# Altium footprint library 60W-PD.PcbLib: 70 footprints (part 2 of 5)
Each footprint in its own frame and in the unit in brackets; x right, y up, seen from the top. Pads: shape width x height; smd on the part's side, far side on the other; paste and mask are expansions set on the pad; w line width, h text height; cw(c..) or ccw(c..) is an arc to the next point about the centre after c.
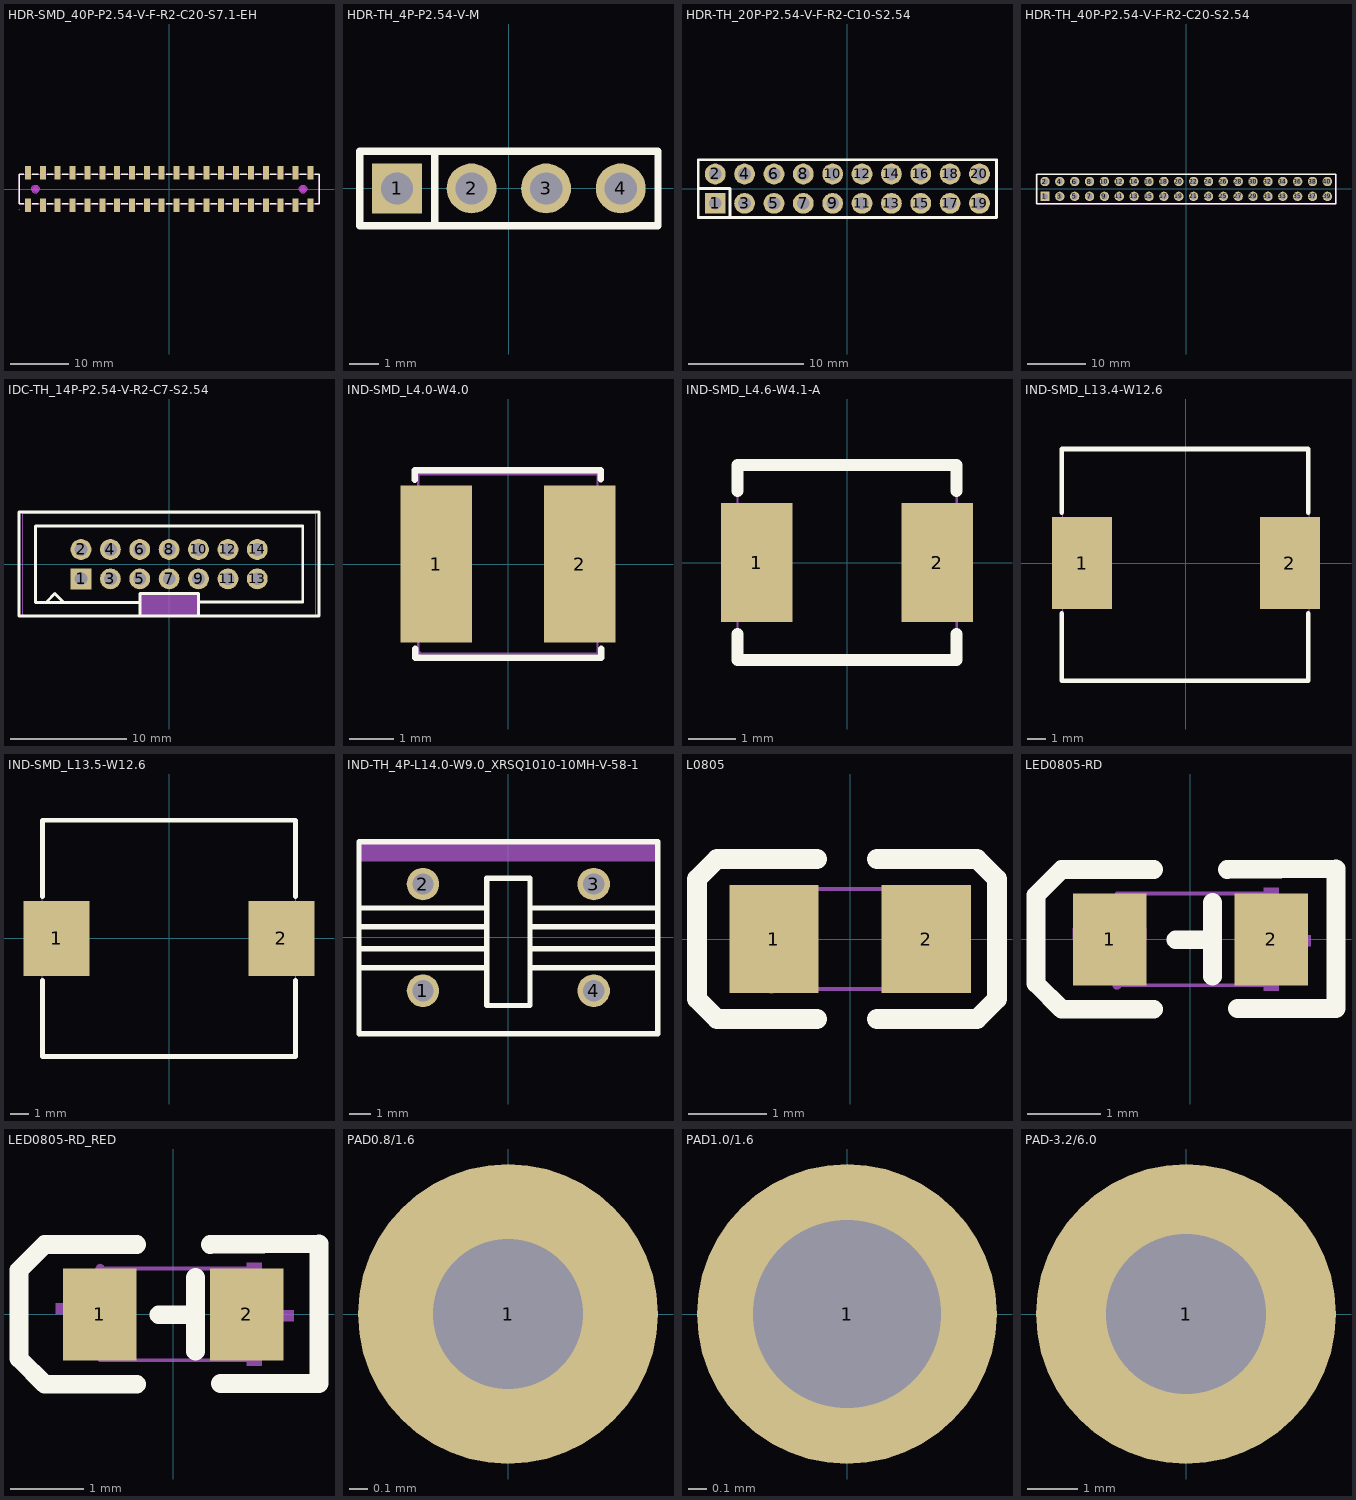
[diagram p1: the footprints below, top view; thin cyan lines are the x and y axes]

## HDR-SMD_40P-P2.54-V-F-R2-C20-S7.1-EH [mil]
pads (40):
  rect 40.2x90.6 smd: 1(-950,-108.2) 2(-950,108.3) 3(-850,-108.2) 4(-850,108.3) 5(-750,-108.2) 6(-750,108.3) 7(-650,-108.2) 8(-650,108.3) 9(-550,-108.2) 10(-550,108.3) 11(-450,-108.2) 12(-450,108.3) 13(-350,-108.2) 14(-350,108.3) 15(-250,-108.2) 16(-250,108.3) 17(-150,-108.2) 18(-150,108.3) 19(-50,-108.2) 20(-50,108.3) 21(50,-108.2) 22(50,108.3) 23(150,-108.2) 24(150,108.3) 25(250,-108.2) 26(250,108.3) 27(350,-108.2) 28(350,108.3) 29(450,-108.2) 30(450,108.3) 31(550,-108.2) 32(550,108.3) 33(650,-108.2) 34(650,108.3) 35(750,-108.2) 36(750,108.3) 37(850,-108.2) 38(850,108.3) 39(950,-108.2) 40(950,108.3)
Top Overlay:
  lines w10: -979.1,-100 -1007.8,-100 -1007.8,100 -979.1,100 ; -920.8,-100 -879.1,-100 ; -920.8,100 -879.1,100 ; -820.8,-100 -779.1,-100 ; -820.8,100 -779.1,100 ; -720.8,-100 -679.1,-100 ; -720.8,100 -679.1,100 ; -620.8,-100 -579.1,-100 ; -620.8,100 -579.1,100 ; -520.8,-100 -479.1,-100 ; -520.8,100 -479.1,100 ; -420.8,-100 -379.1,-100 ; -420.8,100 -379.1,100 ; -320.8,-100 -279.1,-100 ; -320.8,100 -279.1,100 ; -220.8,-100 -179.1,-100 ; -220.8,100 -179.1,100 ; -120.8,-100 -79.1,-100 ; -120.8,100 -79.1,100 ; -20.8,-100 20.9,-100 ; -20.8,100 20.9,100 ; 79.2,-100 120.9,-100 ; 79.2,100 120.9,100 ; 179.2,-100 220.9,-100 ; 179.2,100 220.9,100 ; 279.2,-100 320.9,-100 ; 279.2,100 320.9,100 ; 379.2,-100 420.9,-100 ; 379.2,100 420.9,100 ; 479.2,-100 520.9,-100 ; 479.2,100 520.9,100 ; 579.2,-100 620.9,-100 ; 579.2,100 620.9,100 ; 679.2,-100 720.9,-100 ; 679.2,100 720.9,100 ; 779.2,-100 820.9,-100 ; 779.2,100 820.9,100 ; 879.2,-100 920.9,-100 ; 879.2,100 920.9,100 ; 979.2,-100 1007.9,-100 1007.9,100 979.2,100
Keep-Out Layer:
  board cut-out: 925.6,0 925.2,-4.4 924.1,-8.7 922.2,-12.8 919.6,-16.4 916.5,-19.6 912.8,-22.1 908.8,-24 904.5,-25.2 900,-25.6 895.6,-25.2 891.3,-24 887.2,-22.1 883.6,-19.6 880.4,-16.4 877.9,-12.8 876,-8.7 874.8,-4.4 874.4,0 874.8,4.5 876,8.8 877.9,12.8 880.4,16.5 883.6,19.6 887.2,22.2 891.3,24.1 895.6,25.2 900,25.6 904.5,25.2 908.8,24.1 912.8,22.2 916.5,19.6 919.6,16.5 922.2,12.8 924.1,8.8 925.2,4.5
  board cut-out: -874.4,0 -874.8,-4.4 -875.9,-8.7 -877.8,-12.8 -880.4,-16.4 -883.5,-19.6 -887.2,-22.1 -891.2,-24 -895.5,-25.2 -900,-25.6 -904.4,-25.2 -908.7,-24 -912.8,-22.1 -916.4,-19.6 -919.6,-16.4 -922.1,-12.8 -924,-8.7 -925.2,-4.4 -925.6,0 -925.2,4.5 -924,8.8 -922.1,12.8 -919.6,16.5 -916.4,19.6 -912.8,22.2 -908.7,24.1 -904.4,25.2 -900,25.6 -895.5,25.2 -891.2,24.1 -887.2,22.2 -883.5,19.6 -880.4,16.5 -877.8,12.8 -875.9,8.8 -874.8,4.5
Keep-Out Layer:
  drawing of 76 lines, arcs and shapes, not listed
Mechanical 1:
  lines w0.1: -925.6,0 -925.2,4.5 -924,8.8 -922.1,12.8 -919.6,16.5 -916.4,19.6 -912.8,22.2 -908.7,24.1 -904.4,25.2 -900,25.6 -895.5,25.2 -891.2,24.1 -887.2,22.2 -883.5,19.6 -880.4,16.5 -877.8,12.8 -875.9,8.8 -874.8,4.5 -874.4,0 -874.8,-4.4 -875.9,-8.7 -877.8,-12.8 -880.4,-16.4 -883.5,-19.6 -887.2,-22.1 -891.2,-24 -895.5,-25.2 -900,-25.6 -904.4,-25.2 -908.7,-24 -912.8,-22.1 -916.4,-19.6 -919.6,-16.4 -922.1,-12.8 -924,-8.7 -925.2,-4.4 -925.6,0 ; 874.4,0 874.8,4.5 876,8.8 877.9,12.8 880.4,16.5 883.6,19.6 887.2,22.2 891.3,24.1 895.6,25.2 900,25.6 904.5,25.2 908.8,24.1 912.8,22.2 916.5,19.6 919.6,16.5 922.2,12.8 924.1,8.8 925.2,4.5 925.6,0 925.2,-4.4 924.1,-8.7 922.2,-12.8 919.6,-16.4 916.5,-19.6 912.8,-22.1 908.8,-24 904.5,-25.2 900,-25.6 895.6,-25.2 891.3,-24 887.2,-22.1 883.6,-19.6 880.4,-16.4 877.9,-12.8 876,-8.7 874.8,-4.4 874.4,0
Mechanical 2:
  lines w19.7: -909.7,-1.3 -909.7,1.4 -909,4 -907.6,6.2 -905.6,8.1 -903.3,9.3 -900.6,9.9 -898,9.7 -895.4,8.8 -893.2,7.2 -891.6,5.1 -890.5,2.7 -890.1,0 -890.5,-2.6 -891.6,-5.1 -893.2,-7.2 -895.4,-8.7 -898,-9.6 -900.6,-9.8 -903.3,-9.2 -905.6,-8 -907.6,-6.2 -909,-3.9 -909.7,-1.3 ; 890.3,-1.3 890.3,1.4 891,4 892.4,6.2 894.4,8.1 896.7,9.3 899.4,9.9 902,9.7 904.6,8.8 906.8,7.2 908.4,5.1 909.5,2.7 909.9,0 909.5,-2.6 908.4,-5.1 906.8,-7.2 904.6,-8.7 902,-9.6 899.4,-9.8 896.7,-9.2 894.4,-8 892.4,-6.2 891,-3.9 890.3,-1.3
Mechanical 6:
  lines w2: -1007.8,-100 -1007.8,100 1007.9,100 1007.9,-100 -1007.8,-100
Mechanical 8:
  region: -1005.5,-139.7 -1005.9,-141 -1006.9,-141.9 -1008.2,-142.1 -1009.4,-141.5 -1010.1,-140.4 -1010.1,-139.1 -1009.4,-137.9 -1008.2,-137.4 -1006.9,-137.6 -1005.9,-138.4
Mechanical 9:
  drawing of 40 lines, arcs and shapes, not listed

## HDR-TH_4P-P2.54-V-M [mil]
pads (4):
  rect 66.9x66.9 hole 43.3: 1(-150,0)
  round 66.9 hole 43.3: 2(-50,0) 3(50,0) 4(150,0)
Top Overlay:
  lines w10: -99.1,-50 -99.1,50 ; -99.1,50 200,50 200,-50 -200,-50 -200,50 -99.1,50
Mechanical 6:
  lines w2: -200,-49.2 -200,49.2 200,49.2 200,-49.2 -200,-49.2
Mechanical 8:
  region: -197.7,-49.2 -198.1,-50.5 -199.1,-51.4 -200.4,-51.6 -201.6,-51 -202.3,-49.9 -202.3,-48.6 -201.6,-47.5 -200.4,-46.9 -199.1,-47.1 -198.1,-48
Mechanical 9:
  region: -162.6,12.6 -137.4,12.6 -137.4,-12.6 -162.6,-12.6
  region: -62.6,12.6 -37.4,12.6 -37.4,-12.6 -62.6,-12.6
  region: 37.4,12.6 62.6,12.6 62.6,-12.6 37.4,-12.6
  region: 137.4,12.6 162.6,12.6 162.6,-12.6 137.4,-12.6

## HDR-TH_20P-P2.54-V-F-R2-C10-S2.54 [mil]
pads (20):
  rect 70.9x70.9 hole 43.3: 1(-450,-50)
  round 70.9 hole 43.3: 2(-450,50) 3(-350,-50) 4(-350,50) 5(-250,-50) 6(-250,50) 7(-150,-50) 8(-150,50) 9(-50,-50) 10(-50,50) 11(50,-50) 12(50,50) 13(150,-50) 14(150,50) 15(250,-50) 16(250,50) 17(350,-50) 18(350,50) 19(450,-50) 20(450,50)
Top Overlay:
  lines w10: -505,0 -400,0 -400,-95 ; -507.9,-98.4 -507.9,98.4 507.9,98.4 507.9,-98.4 -507.9,-98.4
Mechanical 6:
  lines w2: -509.8,-98.4 509.8,-98.4 509.8,98.4 -509.8,98.4 -509.8,-98.4
Mechanical 8:
  region: -507.5,-98.4 -507.9,-99.7 -508.9,-100.6 -510.2,-100.8 -511.4,-100.2 -512.1,-99.1 -512.1,-97.8 -511.4,-96.7 -510.2,-96.1 -508.9,-96.3 -507.9,-97.2
Mechanical 9:
  region: 438.2,54.9 461.8,54.9 461.8,45.1 438.2,45.1
  region: 438.2,-45.1 461.8,-45.1 461.8,-54.9 438.2,-54.9
  region: 338.2,54.9 361.8,54.9 361.8,45.1 338.2,45.1
  region: 338.2,-45.1 361.8,-45.1 361.8,-54.9 338.2,-54.9
  region: 238.2,54.9 261.8,54.9 261.8,45.1 238.2,45.1
  region: 238.2,-45.1 261.8,-45.1 261.8,-54.9 238.2,-54.9
  region: 138.2,54.9 161.8,54.9 161.8,45.1 138.2,45.1
  region: 138.2,-45.1 161.8,-45.1 161.8,-54.9 138.2,-54.9
  region: 38.2,54.9 61.8,54.9 61.8,45.1 38.2,45.1
  region: 38.2,-45.1 61.8,-45.1 61.8,-54.9 38.2,-54.9
  region: -61.8,54.9 -38.2,54.9 -38.2,45.1 -61.8,45.1
  region: -61.8,-45.1 -38.2,-45.1 -38.2,-54.9 -61.8,-54.9
  region: -161.8,54.9 -138.2,54.9 -138.2,45.1 -161.8,45.1
  region: -161.8,-45.1 -138.2,-45.1 -138.2,-54.9 -161.8,-54.9
  region: -261.8,54.9 -238.2,54.9 -238.2,45.1 -261.8,45.1
  region: -261.8,-45.1 -238.2,-45.1 -238.2,-54.9 -261.8,-54.9
  region: -361.8,54.9 -338.2,54.9 -338.2,45.1 -361.8,45.1
  region: -361.8,-45.1 -338.2,-45.1 -338.2,-54.9 -361.8,-54.9
  region: -461.8,54.9 -438.2,54.9 -438.2,45.1 -461.8,45.1
  region: -461.8,-45.1 -438.2,-45.1 -438.2,-54.9 -461.8,-54.9

## HDR-TH_40P-P2.54-V-F-R2-C20-S2.54 [mil]
pads (40):
  rect 63x63 hole 39.4: 1(-950,-50)
  round 63 hole 39.4: 2(-950,50) 3(-850,-50) 4(-850,50) 5(-750,-50) 6(-750,50) 7(-650,-50) 8(-650,50) 9(-550,-50) 10(-550,50) 11(-450,-50) 12(-450,50) 13(-350,-50) 14(-350,50) 15(-250,-50) 16(-250,50) 17(-150,-50) 18(-150,50) 19(-50,-50) 20(-50,50) 21(50,-50) 22(50,50) 23(150,-50) 24(150,50) 25(250,-50) 26(250,50) 27(350,-50) 28(350,50) 29(450,-50) 30(450,50) 31(550,-50) 32(550,50) 33(650,-50) 34(650,50) 35(750,-50) 36(750,50) 37(850,-50) 38(850,50) 39(950,-50) 40(950,50)
Top Overlay:
  lines w10: -1005,-100 -1005,100 1005,100 1005,-100 -1005,-100
Mechanical 3:
  lines w2: -1007.8,-98.4 -1007.8,98.4 1007.9,98.4 1007.9,-98.4 -1007.8,-98.4
Mechanical 5:
  region: -1005.5,-98.4 -1005.9,-99.7 -1006.9,-100.6 -1008.2,-100.8 -1009.4,-100.2 -1010.1,-99.1 -1010.1,-97.8 -1009.4,-96.7 -1008.2,-96.1 -1006.9,-96.3 -1005.9,-97.2
Mechanical 6:
  drawing of 40 lines, arcs and shapes, not listed

## IDC-TH_14P-P2.54-V-R2-C7-S2.54 [mil]
pads (14):
  rect 70.9x70.9 hole 43.3: 1(-300,-50)
  round 70.9 hole 43.3: 2(-300,50) 3(-200,-50) 4(-200,50) 5(-100,-50) 6(-100,50) 7(0,-50) 8(0,50) 9(100,-50) 10(100,50) 11(200,-50) 12(200,50) 13(300,-50) 14(300,50)
Top Overlay:
  lines w10: -511,-176.3 -511,178 ; -509.9,178 509.9,178 509.9,-176.3 ; -508.9,-177 509.9,-177 ; -455,-130 -100,-130 ; -455,-129 -455,129.7 ; -454.7,130 454.6,130 ; -414,-125 -389,-100 -362,-127 -362,-128 ; -99.1,-177 -99.1,-100 100,-100 100,-177 ; 100,-129 454.6,-129 454.6,129.7
Mechanical 2:
  region: -98.4,-173.2 -98.4,-98.4 102.4,-98.4 102.4,-173.2
Mechanical 6:
  lines w2: -498,-173.2 -498,173.2 498,173.2 498,-173.2 -498,-173.2
Mechanical 8:
  region: -495.7,-173.2 -496,-174.5 -497,-175.4 -498.4,-175.6 -499.6,-175 -500.3,-173.9 -500.3,-172.6 -499.6,-171.4 -498.4,-170.9 -497,-171.1 -496,-172
Mechanical 9:
  region: -312.6,-37.4 -287.4,-37.4 -287.4,-62.6 -312.6,-62.6
  region: -312.6,62.6 -287.4,62.6 -287.4,37.4 -312.6,37.4
  region: -212.6,-37.4 -187.4,-37.4 -187.4,-62.6 -212.6,-62.6
  region: -212.6,62.6 -187.4,62.6 -187.4,37.4 -212.6,37.4
  region: -112.6,-37.4 -87.4,-37.4 -87.4,-62.6 -112.6,-62.6
  region: -112.6,62.6 -87.4,62.6 -87.4,37.4 -112.6,37.4
  region: -12.6,-37.4 12.6,-37.4 12.6,-62.6 -12.6,-62.6
  region: -12.6,62.6 12.6,62.6 12.6,37.4 -12.6,37.4
  region: 87.4,-37.4 112.6,-37.4 112.6,-62.6 87.4,-62.6
  region: 87.4,62.6 112.6,62.6 112.6,37.4 87.4,37.4
  region: 187.4,-37.4 212.6,-37.4 212.6,-62.6 187.4,-62.6
  region: 187.4,62.6 212.6,62.6 212.6,37.4 187.4,37.4
  region: 287.4,-37.4 312.6,-37.4 312.6,-62.6 287.4,-62.6
  region: 287.4,62.6 312.6,62.6 312.6,37.4 287.4,37.4

## IND-SMD_L4.0-W4.0 [mil]
pads (2):
  rect 63x137.8 smd: 1(-63,0) 2(63,0)
Top Overlay:
  lines w5.9: -81.9,74 -82,82.5 81.5,82.5 81.5,74.8 ; -81.5,-74.4 -81.5,-82.5 82,-82.5 81.9,-74.8
Mechanical 6:
  lines w2: -78.8,-78.7 -78.8,78.8 78.7,78.8 78.7,-78.7 -78.8,-78.7
Mechanical 8:
  region: -76.4,-78.7 -76.8,-80 -77.8,-80.9 -79.1,-81 -80.3,-80.5 -81,-79.4 -81,-78 -80.3,-76.9 -79.1,-76.4 -77.8,-76.6 -76.8,-77.4
Mechanical 9:
  region: 41.3,65 78.7,65 78.7,-64.9 41.3,-64.9
  region: -78.8,65 -41.4,65 -41.4,-64.9 -78.8,-64.9

## IND-SMD_L4.6-W4.1-A [mil]
pads (2):
  rect 59.1x98.4 smd: 1(-74.8,0) 2(74.8,0)
Top Overlay:
  lines w10: -90.5,-59.1 -90.5,-80.7 90.6,-80.7 90.6,-59.1 ; -90.5,59 -90.5,80.7 90.6,80.7 ; 90.6,59 90.6,80.6
Mechanical 6:
  lines w2: -90.5,-80.7 -90.5,80.7 90.6,80.7 90.6,-80.7 -90.5,-80.7
Mechanical 8:
  region: -88.2,-80.7 -88.5,-82 -89.5,-82.9 -90.9,-83.1 -92.1,-82.5 -92.8,-81.4 -92.8,-80.1 -92.1,-79 -90.9,-78.4 -89.5,-78.6 -88.5,-79.5
Mechanical 9:
  region: -51.2,29.5 -51.2,-29.6 -90.5,-29.6 -90.5,29.5
  region: 90.6,29.5 90.6,-29.6 51.2,-29.6 51.2,29.5

## IND-SMD_L13.4-W12.6 [mil]
pads (2):
  rect 128x196.8 smd: 1(-222.4,0) 2(222.5,0)
Top Overlay:
  lines w10: -265.7,-107.6 -265.7,-252 261.8,-252 261.8,-107.6 ; -265.7,107.5 -265.7,244.1 261.8,244.1 261.8,107.5
Mechanical 6:
  lines w2: -263.8,-248.1 -263.8,248 263.8,248 263.8,-248.1 -263.8,-248.1
Mechanical 8:
  region: -261.4,-248.1 -261.4,-249.09 -262.81,-250.5 -264.79,-250.5 -266.2,-249.09 -266.2,-248.1 -266.2,-247.11 -264.79,-245.7 -262.81,-245.7 -261.4,-247.11
Mechanical 9:
  region: -173.2,92.5 -173.2,-92.6 -263.8,-92.6 -263.8,92.5
  region: 263.8,92.5 263.8,-92.6 173.2,-92.6 173.2,92.5
3D body "Unnamed-EasyEDA PCB Model~EUAe.step": height 256.34, standoff 0, extent -269.76,-253.03 259.76,243.03

## IND-SMD_L13.5-W12.6 [mil]
pads (2):
  rect 137.8x157.5 smd: 1(-236.2,0) 2(236.2,0)
Top Overlay:
  lines w10: -265.7,-87.8 -265.7,-248 265.8,-248 265.8,-87.8 ; -265.7,87.8 -265.7,248 265.8,248 265.8,87.8
Mechanical 6:
  lines w2: -265.7,-248 -265.7,248 265.8,248 265.8,-248 -265.7,-248
Mechanical 8:
  region: -263.4,-248 -263.7,-249.3 -264.8,-250.2 -266.1,-250.4 -267.3,-249.8 -268,-248.7 -268,-247.4 -267.3,-246.3 -266.1,-245.7 -264.8,-245.9 -263.7,-246.8
Mechanical 9:
  region: 265.8,68.9 265.8,-68.9 187,-68.9 187,68.9
  region: -187,68.9 -187,-68.9 -265.7,-68.9 -265.7,68.9

## IND-TH_4P-L14.0-W9.0_XRSQ1010-10MH-V-58-1 [mil]
pads (4):
  round 60 hole 39.4 paste-99999 mask+2: 1(-157.5,-98.5) 2(-157.5,98.4) 3(157.4,98.4) 4(157.4,-98.5)
Top Overlay:
  lines w10: -268.4,-55.8 -40,-55.8 ; -268.4,-20.8 -40,-20.8 ; -268.4,19.2 -40,19.2 ; -268.4,54.2 -40,54.2 ; 40,-55.8 268.3,-55.8 ; 40,-20.8 268.3,-20.8 ; 40,19.2 268.3,19.2 ; 40,54.2 268.3,54.2 ; -275.6,-178 275.6,-178 275.6,176.3 -275.6,176.3 -275.6,-178 ; -40,-125.8 40,-125.8 40,109.2 -40,109.2 -40,-125.8
Mechanical 2:
  region: -275,140 -275,175 275,175 275,140
Mechanical 6:
  lines w2: -275,-180 -275,174.3 276.1,174.3 276.1,-180 -275,-180
Mechanical 8:
  region: -272.6,-180 -272.6,-180.99 -274.01,-182.4 -275.99,-182.4 -277.4,-180.99 -277.4,-180 -277.4,-179.01 -275.99,-177.6 -274.01,-177.6 -272.6,-179.01
Mechanical 9:
  region: -141.8,-98.5 -141.8,-101.62 -144.19,-107.39 -148.61,-111.81 -154.38,-114.2 -160.62,-114.2 -166.39,-111.81 -170.81,-107.39 -173.2,-101.62 -173.2,-98.5 -173.2,-95.38 -170.81,-89.61 -166.39,-85.19 -160.62,-82.8 -154.38,-82.8 -148.61,-85.19 -144.19,-89.61 -141.8,-95.38
  region: -141.8,98.4 -141.8,95.28 -144.19,89.51 -148.61,85.09 -154.38,82.7 -160.62,82.7 -166.39,85.09 -170.81,89.51 -173.2,95.28 -173.2,98.4 -173.2,101.52 -170.81,107.29 -166.39,111.71 -160.62,114.1 -154.38,114.1 -148.61,111.71 -144.19,107.29 -141.8,101.52
  region: 173.1,-98.5 173.1,-101.62 170.71,-107.39 166.29,-111.81 160.52,-114.2 154.28,-114.2 148.51,-111.81 144.09,-107.39 141.7,-101.62 141.7,-98.5 141.7,-95.38 144.09,-89.61 148.51,-85.19 154.28,-82.8 160.52,-82.8 166.29,-85.19 170.71,-89.61 173.1,-95.38
  region: 173.1,98.4 173.1,95.28 170.71,89.51 166.29,85.09 160.52,82.7 154.28,82.7 148.51,85.09 144.09,89.51 141.7,95.28 141.7,98.4 141.7,101.52 144.09,107.29 148.51,111.71 154.28,114.1 160.52,114.1 166.29,111.71 170.71,107.29 173.1,101.52
3D body "Unnamed-EasyEDA PCB Model~80fU.step": height 570.87, standoff -137.79, extent -280.59,-178.25 270.59,178.25

## L0805 [mil]
pads (2):
  rect 44.6x54.2 smd paste-3937 mask+2: 1(-38.1,0) 2(38,0)
Top Overlay:
  lines w10: -16.6,-40 -66.6,-40 -76.6,-30 -76.6,-25 -76.6,30 -66.6,40 -61.6,40 -16.6,40 ; 13.4,-40 58.4,-40 63.4,-40 73.4,-30 73.4,25 73.4,30 63.4,40 13.4,40
Top Paste:
  region: 14.2,-8.7 14.2,8.7 29.3,27.1 56.4,27.1 60.3,23.2 60.3,-23.2 56.4,-27.1 29.3,-27.1
  region: -14.2,-8.7 -14.2,8.7 -29.3,27.1 -56.4,27.1 -60.4,23.2 -60.4,-23.2 -56.4,-27.1 -29.3,-27.1
Mechanical 6:
  lines w2: -39.4,-25.1 39.4,-25.1 39.4,25.1 -39.4,25.1 -39.4,-25.1
Mechanical 8:
  region: -37,-25.1 -37.4,-26.4 -38.4,-27.2 -39.7,-27.4 -40.9,-26.9 -41.7,-25.8 -41.7,-24.4 -40.9,-23.3 -39.7,-22.8 -38.4,-22.9 -37.4,-23.8
Mechanical 9:
  region: -39.4,-25.1 -39.4,25.1 -23.6,25.1 -23.6,-25.1
  region: 39.4,-25.1 39.4,25.1 23.6,25.1 23.6,-25.1

## LED0805-RD [mil]
pads (2):
  rect 39.4x49.2 smd: 1(-43.3,0) 2(43.3,0)
Top Overlay:
  lines w10: -19.7,-37.4 -68.9,-37.4 -82.7,-23.6 -82.7,23.6 -68.9,37.4 -19.7,37.4 ; -7.9,-0.2 11.8,-0.2 ; 11.8,-19.7 11.8,19.7 ; 19.7,37.4 77.9,37.8 77.9,-37 25.2,-37
Mechanical 2:
  region: 39.3,27.6 47.2,27.6 47.2,-27.6 39.3,-27.6
  region: 25,-3.7 64.3,-3.7 64.3,2.2 25,2.2
  region: -63,0 -23.6,0 -23.6,5.9 -63,5.9
Mechanical 6:
  lines w2: -39.4,-24.6 -39.4,24.6 39.4,24.6 39.4,-24.6 -39.4,-24.6
Mechanical 8:
  region: -37,-24.6 -37.4,-25.9 -38.4,-26.8 -39.7,-26.9 -40.9,-26.4 -41.7,-25.3 -41.7,-23.9 -40.9,-22.8 -39.7,-22.3 -38.4,-22.5 -37.4,-23.3
Mechanical 9:
  region: 39.3,-24.6 25.6,-24.6 25.6,24.6 39.3,24.6
  region: -25.6,-24.6 -39.4,-24.6 -39.4,24.6 -25.6,24.6

## LED0805-RD_RED [mil]
pads (2):
  rect 39.4x49.2 smd: 1(-39.4,0) 2(39.3,0)
Top Overlay:
  lines w10: -19.7,-37.4 -68.9,-37.4 -82.7,-23.6 -82.7,23.6 -68.9,37.4 -19.7,37.4 ; -7.9,-0.2 11.8,-0.2 ; 11.8,-19.7 11.8,19.7 ; 19.7,37.4 77.9,37.8 77.9,-37 25.2,-37
Mechanical 2:
  region: 39.3,27.6 47.2,27.6 47.2,-27.6 39.3,-27.6
  region: 25,-3.7 64.3,-3.7 64.3,2.2 25,2.2
  region: -63,0 -23.6,0 -23.6,5.9 -63,5.9
Mechanical 6:
  lines w2: -39.4,-24.6 -39.4,24.6 39.4,24.6 39.4,-24.6 -39.4,-24.6
Mechanical 8:
  region: -37,24.6 -37.4,23.3 -38.4,22.5 -39.7,22.3 -40.9,22.8 -41.7,24 -41.7,25.3 -40.9,26.4 -39.7,27 -38.4,26.8 -37.4,25.9
Mechanical 9:
  region: 39.3,-24.6 25.6,-24.6 25.6,24.6 39.3,24.6
  region: -25.6,-24.6 -39.4,-24.6 -39.4,24.6 -25.6,24.6

## PAD0.8/1.6 [mm]
pads (1):
  round 1.6 hole 0.8: 1(0,0)

## PAD1.0/1.6 [mm]
pads (1):
  round 1.6 hole 1: 1(0,0)

## PAD-3.2/6.0 [mm]
pads (1):
  round 6 hole 3.2: 1(0,0)